# Altium footprint library Trig_PcbLib.PcbLib: 29 footprints (part 2 of 2)
Each footprint in its own frame and in the unit in brackets; x right, y up, seen from the top. Pads: shape width x height; smd on the part's side, far side on the other; paste and mask are expansions set on the pad; w line width, h text height; cw(c..) or ccw(c..) is an arc to the next point about the centre after c.
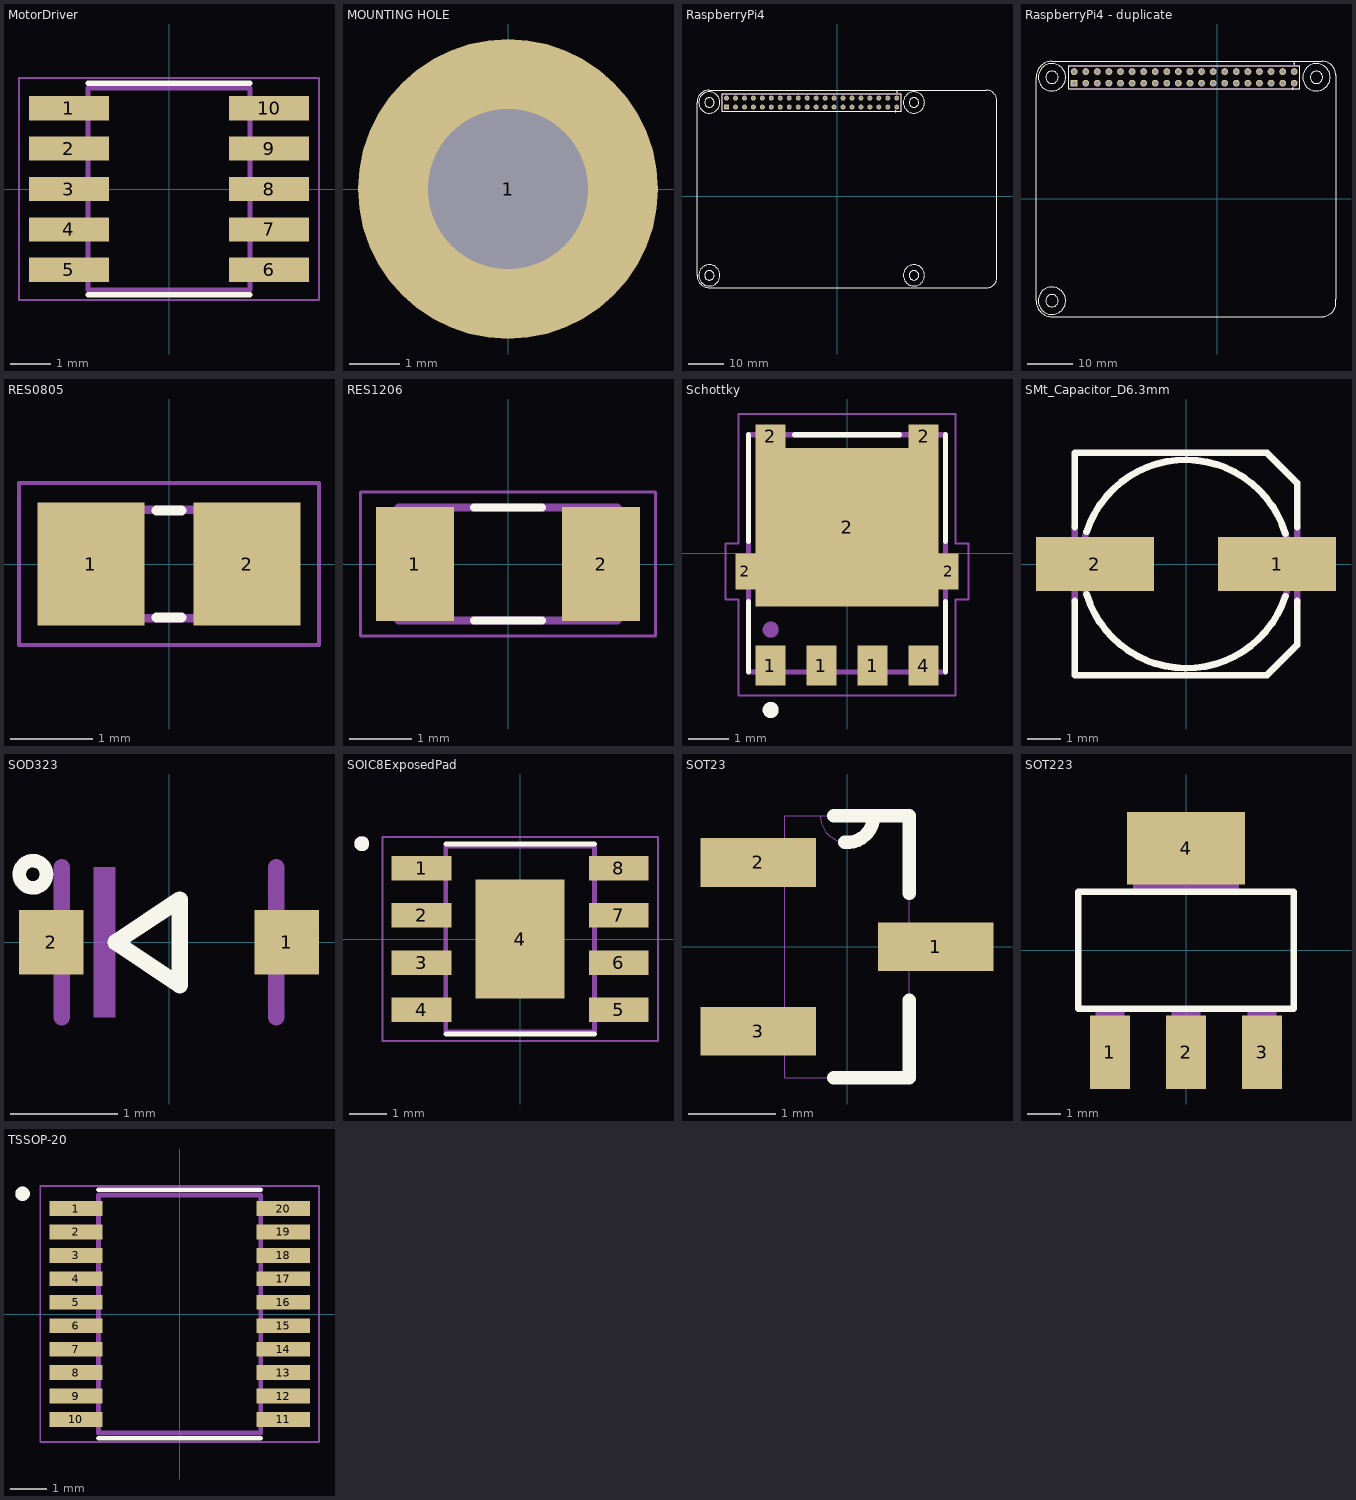
[diagram p1: the footprints below, top view; thin cyan lines are the x and y axes]

## MotorDriver [mm]
pads (10):
  rect 1.97x0.6 smd: 1(-2.475,2) 2(-2.475,1) 3(-2.475,0) 4(-2.475,-1) 5(-2.475,-2) 6(2.475,-2) 7(2.475,-1) 8(2.475,0) 9(2.475,1) 10(2.475,2)
Top Overlay:
  lines w0.127: -2,-2.614 2,-2.614 ; -2,2.614 2,2.614
Mechanical 4:
  lines w0.127: -2,-2.5 2,-2.5 ; -2,-2.5 -2,2.5 ; -2,-2.5 2,-2.5 ; -2,-2.5 -2,2.5 ; -2,2.5 2,2.5 ; -2,2.5 2,2.5 ; 2,-2.5 2,2.5 ; 2,-2.5 2,2.5
Mechanical 16:
  lines w0.05: -3.71,-2.75 3.71,-2.75 3.71,2.75 -3.71,2.75 -3.71,-2.75
3D body "SOIC10.STEP": height 1.75, standoff 0, extent -3.025,-2.45 2.975,2.45

## MOUNTING HOLE [mm]
pads (1):
  round 6 hole 3.2 unplated: 1(0,0)

## RaspberryPi4 [mm]
pads (40):
  rect 1.398x1.398 hole 0.89: 1(-31.43,25.305)
  round 1.398 hole 0.89: 2(-31.43,27.845) 3(-28.89,25.305) 4(-28.89,27.845) 5(-26.35,25.305) 6(-26.35,27.845) 7(-23.81,25.305) 8(-23.81,27.845) 9(-21.27,25.305) 10(-21.27,27.845) 11(-18.73,25.305) 12(-18.73,27.845) 13(-16.19,25.305) 14(-16.19,27.845) 15(-13.65,25.305) 16(-13.65,27.845) 17(-11.11,25.305) 18(-11.11,27.845) 19(-8.57,25.305) 20(-8.57,27.845) 21(-6.03,25.305) 22(-6.03,27.845) 23(-3.49,25.305) 24(-3.49,27.845) 25(-0.95,25.305) 26(-0.95,27.845) 27(1.59,25.305) 28(1.59,27.845) 29(4.13,25.305) 30(4.13,27.845) 31(6.67,25.305) 32(6.67,27.845) 33(9.21,25.305) 34(9.21,27.845) 35(11.75,25.305) 36(11.75,27.845) 37(14.29,25.305) 38(14.29,27.845) 39(16.83,25.305) 40(16.83,27.845)
Top Overlay:
  circle w0.1: c21.7,-22.4 r1.35
  circle w0.1: c21.7,-22.4 r3
  circle w0.1: c-36.3,26.6 r1.35
  circle w0.1: c-36.3,26.6 r3
  circle w0.1: c-36.3,-22.4 r1.35
  circle w0.1: c-36.3,-22.4 r3
  circle w0.1: c21.7,26.6 r1.35
  circle w0.1: c21.7,26.6 r3
  circle w0.2: c16.505,24.11 r0.1
  circle w0.2: c16.855,29.61 r0.1
  lines w0.1: -39.8,-22.4 ccw(c-36.3,-22.4) -36.3,-25.9 42.7,-25.9 ccw(c42.2,-22.9) 45.2,-22.4 45.2,26.6 45.2,27.1 ccw(c42.2,27.1) 42.2,30.1 21.7,30.1 -36.3,30.1 ccw(c-36.3,26.6) -39.8,26.6 -39.8,-22.4
  lines w0.127: -32.635,24.065 18.035,24.065 18.035,29.085 -32.635,29.085 -32.635,24.065
Mechanical 4:
  circle w0.2: c16.505,24.11 r0.1
  circle w0.2: c16.505,24.11 r0.1
  circle w0.2: c16.855,29.61 r0.1
  circle w0.2: c16.855,29.61 r0.1
  lines w0.127: -32.635,24.065 18.035,24.065 ; -32.635,24.065 -32.635,29.085 ; -32.635,24.065 18.035,24.065 ; -32.635,24.065 -32.635,29.085 ; -32.635,29.085 18.035,29.085 ; -32.635,29.085 18.035,29.085 ; 18.035,24.065 18.035,29.085 ; 18.035,24.065 18.035,29.085
3D body "40PinHeader.stp": height 2.71, standoff -8.94, extent -32.825,24.125 18.225,29.125

## RaspberryPi4 - duplicate [mm]
pads (40):
  rect 1.5x1.5 hole 1: 1(-31.43,25.305)
  round 1.5 hole 1: 2(-31.43,27.845) 3(-28.89,25.305) 4(-28.89,27.845) 5(-26.35,25.305) 6(-26.35,27.845) 7(-23.81,25.305) 8(-23.81,27.845) 9(-21.27,25.305) 10(-21.27,27.845) 11(-18.73,25.305) 12(-18.73,27.845) 13(-16.19,25.305) 14(-16.19,27.845) 15(-13.65,25.305) 16(-13.65,27.845) 17(-11.11,25.305) 18(-11.11,27.845) 19(-8.57,25.305) 20(-8.57,27.845) 21(-6.03,25.305) 22(-6.03,27.845) 23(-3.49,25.305) 24(-3.49,27.845) 25(-0.95,25.305) 26(-0.95,27.845) 27(1.59,25.305) 28(1.59,27.845) 29(4.13,25.305) 30(4.13,27.845) 31(6.67,25.305) 32(6.67,27.845) 33(9.21,25.305) 34(9.21,27.845) 35(11.75,25.305) 36(11.75,27.845) 37(14.29,25.305) 38(14.29,27.845) 39(16.83,25.305) 40(16.83,27.845)
Top Overlay:
  circle w0.2: c16.855,29.61 r0.1
  circle w0.2: c16.505,24.11 r0.1
  circle w0.1: c21.7,26.6 r3
  circle w0.1: c21.7,26.6 r1.35
  circle w0.1: c-36.3,-22.4 r3
  circle w0.1: c-36.3,-22.4 r1.35
  circle w0.1: c-36.3,26.6 r3
  circle w0.1: c-36.3,26.6 r1.35
  lines w0.1: 23.294,-25.847 ccw(c22.95,-22.825) 25.901,-22.09 ; 23.3,-25.9 -36.3,-25.9 cw(c-36.3,-22.4) -39.8,-22.4 -39.8,26.6 cw(c-36.3,26.6) -36.3,30.1 21.7,30.1 22.925,30.1 cw(c22.925,27.1) 25.925,27.1 ; 25.925,-22.125 25.925,27.125
  lines w0.127: -32.635,24.065 -32.635,29.085 18.035,29.085 18.035,24.065 -32.635,24.065
Mechanical 4:
  circle w0.2: c16.855,29.61 r0.1
  circle w0.2: c16.855,29.61 r0.1
  circle w0.2: c16.505,24.11 r0.1
  circle w0.2: c16.505,24.11 r0.1
  lines w0.127: -32.635,24.065 -32.635,29.085 ; -32.635,24.065 18.035,24.065 ; -32.635,24.065 -32.635,29.085 ; -32.635,24.065 18.035,24.065 ; -32.635,29.085 18.035,29.085 ; -32.635,29.085 18.035,29.085 ; 18.035,24.065 18.035,29.085 ; 18.035,24.065 18.035,29.085
3D body "40PinHeader.stp": height 2.71, standoff -8.94, extent -32.825,24.125 18.225,29.125

## RES0805 [mm]
pads (2):
  rect 1.3x1.5 smd: 1(-0.95,0) 2(0.95,0)
Top Overlay:
  lines w0.127: -0.15,-0.65 0.15,-0.65 ; -0.15,0.65 0.15,0.65
Mechanical 4:
  region: 0.356,0.726 1.106,0.726 1.106,-0.724 0.356,-0.724
  region: -1.092,0.726 -0.342,0.726 -0.342,-0.724 -1.092,-0.724
  region: 0.356,0.726 1.106,0.726 1.106,-0.724 0.356,-0.724
  region: -1.092,0.726 -0.342,0.726 -0.342,-0.724 -1.092,-0.724
  lines w0.102: -0.381,0.66 0.381,0.66 -0.381,0.66 ; -0.356,-0.66 0.381,-0.66 -0.356,-0.66
Mechanical 16:
  lines w0.051: -1.823,-0.983 -1.823,0.983 1.823,0.983 1.823,-0.983 -1.823,-0.983
3D body "res_0805.stp": height 0.65, standoff 0, extent -1,-0.6 1,0.6

## RES1206 [mm]
pads (2):
  rect 1.24x1.82 smd: 1(-1.485,0) 2(1.485,0)
Top Overlay:
  lines w0.127: -0.54,-0.9 0.54,-0.9 ; -0.54,0.9 0.54,0.9
Mechanical 4:
  lines w0.127: -1.75,-0.9 1.75,-0.9 ; -1.75,-0.9 -1.75,0.9 ; -1.75,-0.9 1.75,-0.9 ; -1.75,-0.9 -1.75,0.9 ; -1.75,0.9 1.75,0.9 ; -1.75,0.9 1.75,0.9 ; 1.75,-0.9 1.75,0.9 ; 1.75,-0.9 1.75,0.9
Mechanical 16:
  lines w0.05: -2.355,-1.15 2.355,-1.15 2.355,1.15 -2.355,1.15 -2.355,-1.15
3D body "res_1206.stp": height 0.7, standoff 0, extent -1.5,-0.8 1.7,0.8

## Schottky [mm]
pads (9):
  rect 0.75x1 smd: 1(-1.905,-2.795) 1(-0.635,-2.795) 1(0.635,-2.795) 4(1.905,-2.795)
  rect 0.495x0.905 smd: 2(-2.528,-0.453) 2(2.528,-0.453)
  rect 0.75x0.575 smd: 2(-1.905,2.913) 2(1.905,2.913)
  rect 4.56x3.955 smd: 2(0,0.647)
Top Overlay:
  circle w0.2: c-1.9,-3.9 r0.1
  lines w0.127: -2.45,-2.95 -2.45,-1.2 ; -2.45,0.3 -2.45,2.95 ; -1.3,2.95 1.3,2.95 ; 2.45,-2.95 2.45,-1.2 ; 2.45,0.3 2.45,2.95
Top Paste:
  region: -1.251,2.107 1.25,2.107 1.25,-0.778 -1.251,-0.778
Mechanical 4:
  circle w0.2: c-1.9,-1.9 r0.1
  circle w0.2: c-1.9,-1.9 r0.1
  lines w0.127: -2.45,-2.95 2.45,-2.95 ; -2.45,-2.95 -2.45,2.95 ; -2.45,-2.95 2.45,-2.95 ; -2.45,-2.95 -2.45,2.95 ; -2.45,2.95 2.45,2.95 ; -2.45,2.95 2.45,2.95 ; 2.45,-2.95 2.45,2.95 ; 2.45,-2.95 2.45,2.95
Mechanical 16:
  lines w0.05: -3.025,-1.155 -2.7,-1.155 -2.7,-3.545 2.7,-3.545 2.7,-1.155 3.025,-1.155 3.025,0.25 2.7,0.25 2.7,3.467 -2.7,3.467 -2.7,0.25 -3.025,0.25 -3.025,-1.155
3D body "User Library-DFN5x6_SO8FL.STEP": height 1.13, standoff 0, extent -2.7,-2.95 2.45,3.2

## SMt_Capacitor_D6.3mm [mm]
pads (2):
  rect 3.5x1.6 smd: 1(2.7,0) 2(-2.7,0)
Top Overlay:
  lines w0.203: -3.3,-1.1 -3.3,-3.3 2.4,-3.3 3.3,-2.4 3.3,-1.1 ; -3.3,1.1 -3.3,3.3 2.4,3.3 3.3,2.4 3.3,1.1 ; -2.949,-0.904 ccw(c0.008,0) 2.948,-0.955 ; -2.948,0.955 cw(c-0.008,0) 2.949,0.904
Mechanical 4:
  lines w0.203: -3.3,-1.1 -3.3,1.1 -3.3,-1.1 ; -2.957,-0.879 cw(c0,0.025) -2.957,0.929 ccw(c0,0.025) -2.957,-0.879 ; 2.957,-0.929 ccw(c0,-0.025) 2.957,0.879 cw(c0,-0.025) 2.957,-0.929 ; 3.3,-1.1 3.3,1.1 3.3,-1.1
3D body "edk476m035a9gaa.stp": height 5.37, standoff -0.29, extent -3.475,-3.475 4.125,3.325

## SOD323 [mm]
pads (2):
  rect 0.6x0.6 smd: 1(1.1,0) 2(-1.1,0)
Top Overlay:
  circle w0.127: c-1.27,0.635 r0.127
  lines w0.152: -0.5,0 0.1,0.4 0.1,-0.4 -0.5,0
Mechanical 4:
  region: -0.7,0.7 -0.5,0.7 -0.5,-0.7 -0.7,-0.7
  region: -0.7,0.7 -0.5,0.7 -0.5,-0.7 -0.7,-0.7
  lines w0.152: -1,-0.7 -1,0.7 -1,-0.7 ; 1,-0.7 1,0.7 1,-0.7
3D body "User Library-SOD323F-1.step": height 1, standoff 0, extent -1.15,-0.675 1.35,0.675

## SOIC8ExposedPad [mm]
pads (9):
  rect 1.61x0.66 smd: 1(-2.655,1.905) 2(-2.655,0.635) 3(-2.655,-0.635) 4(-2.655,-1.905) 5(2.655,-1.905) 6(2.655,-0.635) 7(2.655,0.635) 8(2.655,1.905)
  rect 2.4x3.2 smd: 4(0,0)
Top Overlay:
  circle w0.2: c-4.265,2.565 r0.1
  lines w0.127: -2,-2.555 2,-2.555 ; -2,2.555 2,2.555
Top Paste:
  region: 0.135,1.335 0.935,1.335 0.935,0.135 0.135,0.135
  region: 0.135,-0.135 0.935,-0.135 0.935,-1.335 0.135,-1.335
  region: -0.935,-0.135 -0.135,-0.135 -0.135,-1.335 -0.935,-1.335
  region: -0.935,1.335 -0.135,1.335 -0.135,0.135 -0.935,0.135
Mechanical 4:
  circle w0.2: c-4.265,2.565 r0.1
  circle w0.2: c-4.265,2.565 r0.1
  lines w0.127: -2,-2.5 -2,2.5 ; -2,-2.5 2,-2.5 ; -2,-2.5 -2,2.5 ; -2,-2.5 2,-2.5 ; -2,2.5 2,2.5 ; -2,2.5 2,2.5 ; 2,-2.5 2,2.5 ; 2,-2.5 2,2.5
Mechanical 16:
  lines w0.05: -3.71,-2.75 -3.71,2.75 3.71,2.75 3.71,-2.75 -3.71,-2.75
3D body "S08.stp": height 1.55, standoff 0, extent -3,-2.45 3,2.45

## SOT23 [mil]
pads (3):
  rect 52x22 smd: 1(40,0) 2(-40,38) 3(-40,-38)
Top Overlay:
  lines w6: -6,-59 28,-59 28,-24 ; -6,59 12,59 28,59 28,24 ; -1.04,47 ccw(c0,58.96) 12,58.96
Mechanical 13:
  lines w0: -28,-48 -49,-48 -49,-28 -28,-28 ; -28,-48 -28,-28 ; -28,-48 -28,-59 28,-59 28,-10 ; -28,-28 -28,28 ; -28,28 -49,28 -49,48 -28,48 ; -28,28 -28,48 ; -28,48 -28,59 -12,59 ; -12,59 ccw(c0,59) 12,59 ; -12,59 12,59 ; 12,59 28,59 28,10 ; 28,-10 49,-10 49,10 28,10 ; 28,-10 28,10
3D body "MMBTH10LT3G--3DModel-STEP-56544.STEP": height 40.26, standoff -3.44, extent -52.24,-57.09 42.25,57.09

## SOT223 [mil]
pads (4):
  rect 48x88 smd: 1(-91,-122) 2(0,-122) 3(91,-122)
  rect 141.73x86.61 smd: 4(0,122.01)
Top Overlay:
  lines w8: -129,-70 129,-70 129,70 -129,70 -129,-70
Mechanical 4:
  region: -63.11,144 63,144 63,71.12 -63.11,71.12
  region: -17,-71 17,-71 17,-144.03 -17,-144.03
  region: -108.03,-71 -74,-71 -74,-144.04 -108.03,-144.04
  region: 74.02,-71 108,-71 108,-144.03 74.02,-144.03
  region: -63.02,144 63,144 63,71.02 -63.02,71.02
  region: -17,-71 17,-71 17,-144.04 -17,-144.04
  region: -108.07,-71 -74,-71 -74,-144.09 -108.07,-144.09
  region: 74,-71 108,-71 108,-144 74,-144
  region: -63.11,144 63,144 63,71.12 -63.11,71.12
  region: -17,-71 17,-71 17,-144.03 -17,-144.03
  region: -108.03,-71 -74,-71 -74,-144.04 -108.03,-144.04
  region: 74.02,-71 108,-71 108,-144.03 74.02,-144.03
  region: -63.02,144 63,144 63,71.02 -63.02,71.02
  region: -17,-71 17,-71 17,-144.04 -17,-144.04
  region: -108.07,-71 -74,-71 -74,-144.09 -108.07,-144.09
  region: 74,-71 108,-71 108,-144 74,-144
3D body "SOT223-3.step": height 62.99, standoff 0, extent -121.52,-143.66 134.38,134.84

## TSSOP-20 [mm]
pads (20):
  rect 1.48x0.41 smd: 1(-2.875,2.925) 2(-2.875,2.275) 3(-2.875,1.625) 4(-2.875,0.975) 5(-2.875,0.325) 6(-2.875,-0.325) 7(-2.875,-0.975) 8(-2.875,-1.625) 9(-2.875,-2.275) 10(-2.875,-2.925) 11(2.875,-2.925) 12(2.875,-2.275) 13(2.875,-1.625) 14(2.875,-0.975) 15(2.875,-0.325) 16(2.875,0.325) 17(2.875,0.975) 18(2.875,1.625) 19(2.875,2.275) 20(2.875,2.925)
Top Overlay:
  circle w0.2: c-4.355,3.335 r0.1
  lines w0.127: -2.25,-3.45 2.25,-3.45 ; -2.25,3.45 2.25,3.45
Mechanical 4:
  circle w0.2: c-4.355,3.335 r0.1
  circle w0.2: c-4.355,3.335 r0.1
  lines w0.127: -2.25,-3.3 -2.25,3.3 ; -2.25,-3.3 2.25,-3.3 ; -2.25,-3.3 -2.25,3.3 ; -2.25,-3.3 2.25,-3.3 ; -2.25,3.3 2.25,3.3 ; -2.25,3.3 2.25,3.3 ; 2.25,-3.3 2.25,3.3 ; 2.25,-3.3 2.25,3.3
Mechanical 16:
  lines w0.05: -3.865,-3.55 -3.865,3.55 3.865,3.55 3.865,-3.55 -3.865,-3.55
3D body "TSSOP-20.stp": height 1.11, standoff 0.01, extent -3.215,-3.199 3.215,3.199